# EAGLE library part JS5208 (library power_module)
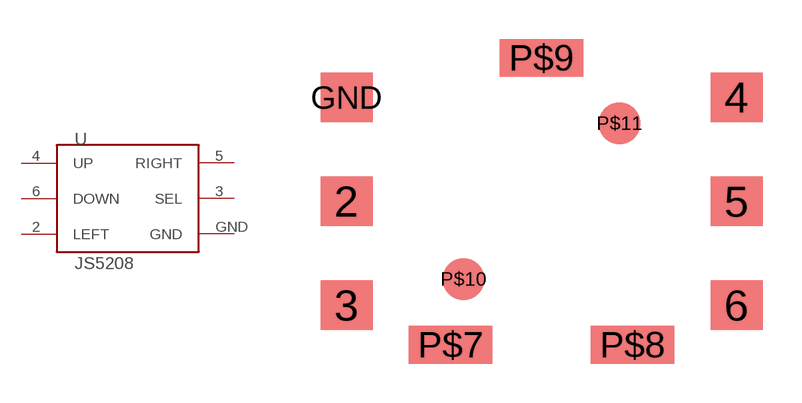
[diagram p13: symbol with the pads of JS5208; footprint JS5208]

Designator prefix -

## JS5208  [JS5208]
2  LEFT
3  SEL
4  UP
5  RIGHT
6  DOWN
GND  GND

## Footprint JS5208 (pad centres in mm)
smd 2 x 1.9: 2 -7.5,0; 3 -7.5,-4; 4 7.5,4; 5 7.5,0; 6 7.5,-4; GND -7.5,4
smd 3.2 x 1.45: P$7 -3.5,-5.525; P$8 3.5,-5.525; P$9 0,5.525
smd 1.6 x 1.6: P$10 -3,-3; P$11 3,3